# Altium schematic symbol library CC0805ZRY5V9BB104.SchLib: 2 symbols
Pins are listed as number, name and electrical type; pins without a type are passive.

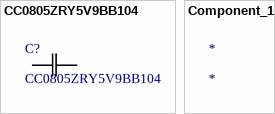
[diagram p0: symbols CC0805ZRY5V9BB104 to Component_1]

## CC0805ZRY5V9BB104
designator C?
No Description Available; Vendor: Yageo; Built_By: EMA_UL_Team; SourceLibrary: Yageo_2014-12-31; Type: DEV; Manufacturer_Part_Number: CC0805ZRY5V9BB104; Copyright: Copyright (C) 2021 Accelerated Designs. All rights reserved; RefDes: RefDes
footprint YAG_CC0805_YAG
pins: 1, 2

## Component_1
designator *